# Altium footprint library 2.45-ECM-XF.PcbLib: 58 footprints (part 2 of 4)
Each footprint in its own frame and in the unit in brackets; x right, y up, seen from the top. Pads: shape width x height; smd on the part's side, far side on the other; paste and mask are expansions set on the pad; w line width, h text height; cw(c..) or ccw(c..) is an arc to the next point about the centre after c.
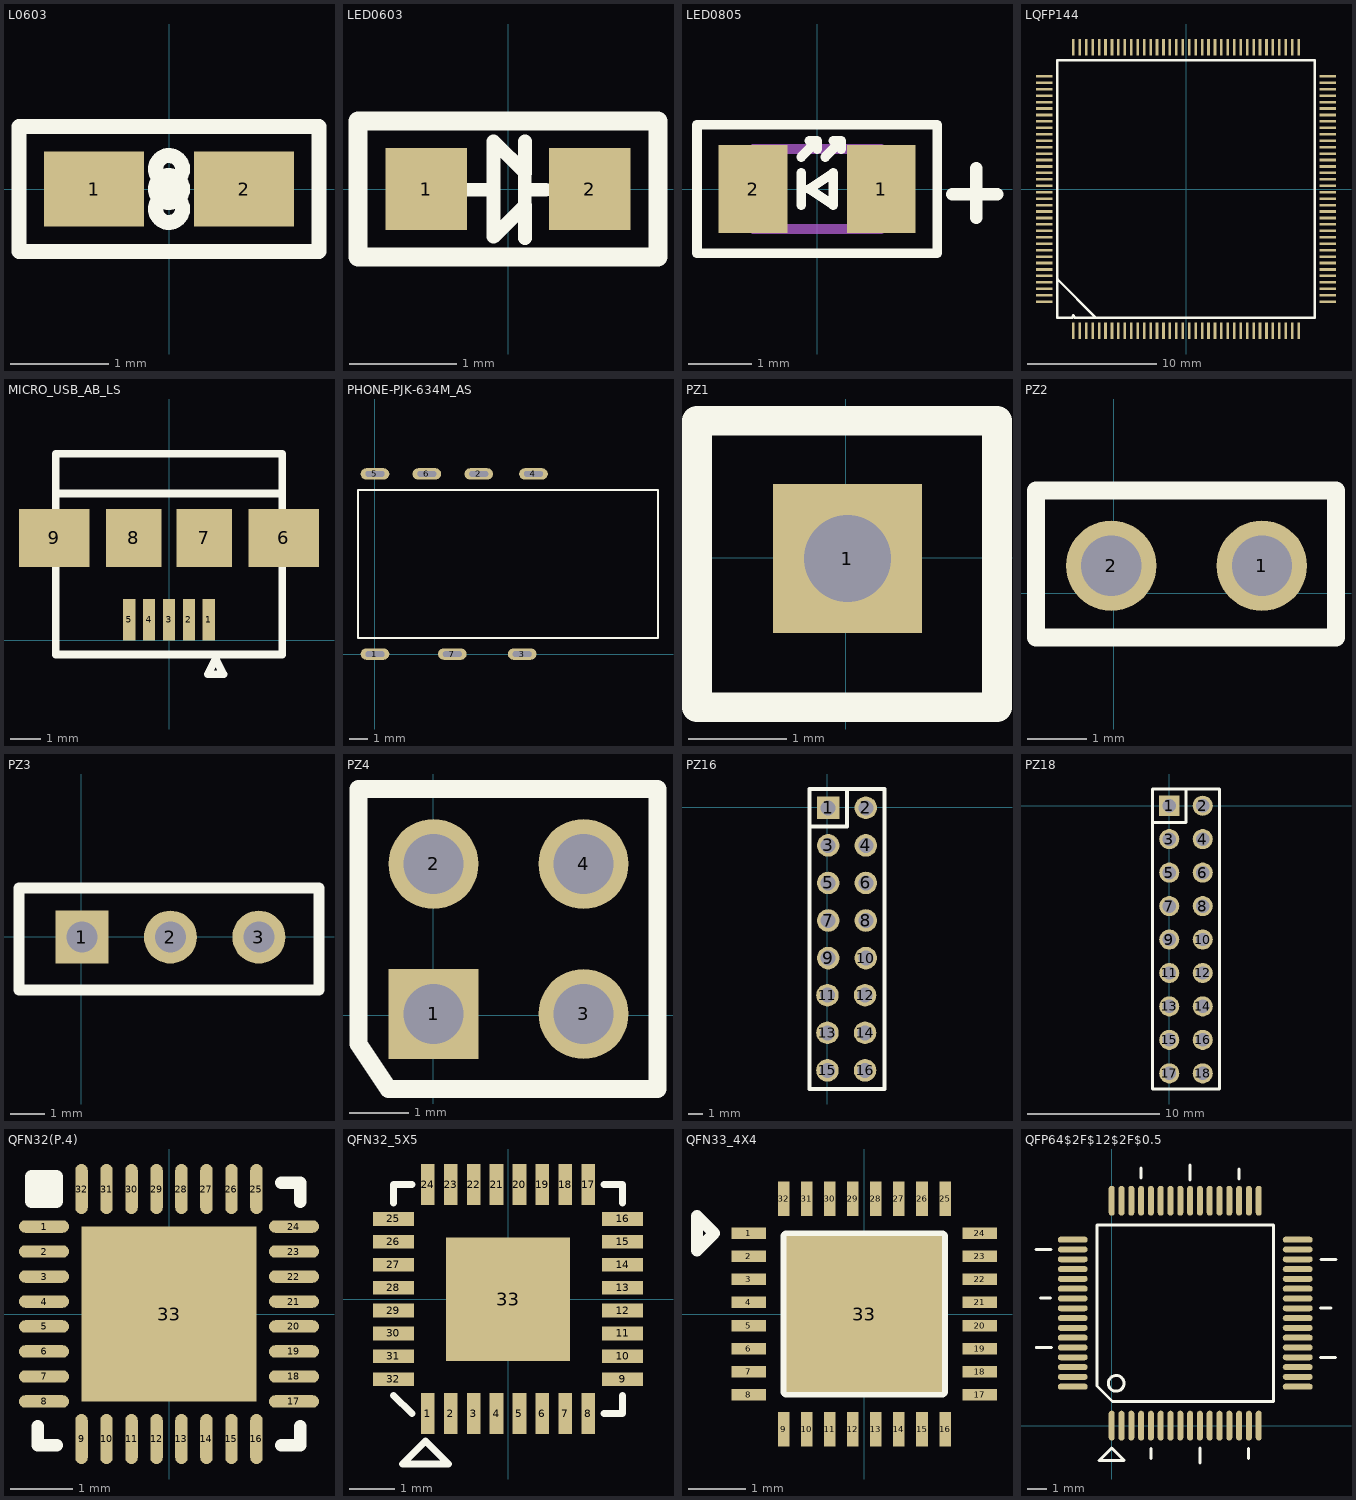
[diagram p1: the footprints below, top view; thin cyan lines are the x and y axes]

## L0603 [mil]
pads (2):
  rect 40x30 smd: 1(-30,0) 2(30,0)
Top Overlay:
  circle w6: c0,8 r5.39
  circle w6: c0,-8 r5.39
  circle w6: c0,0 r5.39
  lines w6: -60,-25 60,-25 60,25 -60,25 -60,-25

## LED0603 [mil]
pads (2):
  rect 30x30 smd: 1(-30,0) 2(30,0)
Top Overlay:
  lines w5: -15.03,-0.32 -7.3,-0.32 ; 6.21,-18.06 6.21,-5.99 ; 6.21,5.81 6.21,17.47 ; 7.75,-0.32 13.81,-0.32 ; -5.31,-17.57 -5.3,12.53 -5.3,17.55 6.19,6.05 6.19,-6.07 -5.31,-17.57
  lines w7: -55,-25 55,-25 55,25 -55,25 -55,-25

## LED0805 [mil]
pads (2):
  rect 43x55 smd: 1(40,0) 2(-40,0)
Top Overlay:
  lines w6: -10,-10 -10,10 ; -10,20 0,30 ; -5,30 0,30 ; 0,25 0,30 ; 5,20 15,30 ; 10,30 15,30 ; 15,25 15,30 ; -75,-40 75,-40 75,40 -75,40 -75,-40 ; -5,0 10,10 10,-10 -5,0
  lines w8: 84.42,-3.27 112.27,-3.27 ; 99.32,-17.78 99.32,12.82
Mechanical103:
  lines w6: -40,-25 40,-25 40,25 -40,25 -40,-25

## LQFP144 [mm]
height 1.6
pads (144):
  rect 0.2x1.3 smd: 1(-8.75,-11) 2(-8.25,-11) 3(-7.75,-11) 4(-7.25,-11) 5(-6.75,-11) 6(-6.25,-11) 7(-5.75,-11) 8(-5.25,-11) 9(-4.75,-11) 10(-4.25,-11) 11(-3.75,-11) 12(-3.25,-11) 13(-2.75,-11) 14(-2.25,-11) 15(-1.75,-11) 16(-1.25,-11) 17(-0.75,-11) 18(-0.25,-11) 19(0.25,-11) 20(0.75,-11) 21(1.25,-11) 22(1.75,-11) 23(2.25,-11) 24(2.75,-11) 25(3.25,-11) 26(3.75,-11) 27(4.25,-11) 28(4.75,-11) 29(5.25,-11) 30(5.75,-11) 31(6.25,-11) 32(6.75,-11) 33(7.25,-11) 34(7.75,-11) 35(8.25,-11) 36(8.75,-11) 73(8.75,11) 74(8.25,11) 75(7.75,11) 76(7.25,11) 77(6.75,11) 78(6.25,11) 79(5.75,11) 80(5.25,11) 81(4.75,11) 82(4.25,11) 83(3.75,11) 84(3.25,11) 85(2.75,11) 86(2.25,11) 87(1.75,11) 88(1.25,11) 89(0.75,11) 90(0.25,11) 91(-0.25,11) 92(-0.75,11) 93(-1.25,11) 94(-1.75,11) 95(-2.25,11) 96(-2.75,11) 97(-3.25,11) 98(-3.75,11) 99(-4.25,11) 100(-4.75,11) 101(-5.25,11) 102(-5.75,11) 103(-6.25,11) 104(-6.75,11) 105(-7.25,11) 106(-7.75,11) 107(-8.25,11) 108(-8.75,11)
  rect 1.3x0.2 smd: 37(11,-8.75) 38(11,-8.25) 39(11,-7.75) 40(11,-7.25) 41(11,-6.75) 42(11,-6.25) 43(11,-5.75) 44(11,-5.25) 45(11,-4.75) 46(11,-4.25) 47(11,-3.75) 48(11,-3.25) 49(11,-2.75) 50(11,-2.25) 51(11,-1.75) 52(11,-1.25) 53(11,-0.75) 54(11,-0.25) 55(11,0.25) 56(11,0.75) 57(11,1.25) 58(11,1.75) 59(11,2.25) 60(11,2.75) 61(11,3.25) 62(11,3.75) 63(11,4.25) 64(11,4.75) 65(11,5.25) 66(11,5.75) 67(11,6.25) 68(11,6.75) 69(11,7.25) 70(11,7.75) 71(11,8.25) 72(11,8.75) 109(-11,8.75) 110(-11,8.25) 111(-11,7.75) 112(-11,7.25) 113(-11,6.75) 114(-11,6.25) 115(-11,5.75) 116(-11,5.25) 117(-11,4.75) 118(-11,4.25) 119(-11,3.75) 120(-11,3.25) 121(-11,2.75) 122(-11,2.25) 123(-11,1.75) 124(-11,1.25) 125(-11,0.75) 126(-11,0.25) 127(-11,-0.25) 128(-11,-0.75) 129(-11,-1.25) 130(-11,-1.75) 131(-11,-2.25) 132(-11,-2.75) 133(-11,-3.25) 134(-11,-3.75) 135(-11,-4.25) 136(-11,-4.75) 137(-11,-5.25) 138(-11,-5.75) 139(-11,-6.25) 140(-11,-6.75) 141(-11,-7.25) 142(-11,-7.75) 143(-11,-8.25) 144(-11,-8.75)
Top Overlay:
  lines w0.2: -9.982,-7.01 -6.985,-10.008 ; -10,-10 -8.85,-10 -8.75,-9.8 -8.65,-10 10,-10 10,10 -10,10 -10,-10

## MICRO_USB_AB_LS [mm]
pads (9):
  rect 0.4x1.35 smd: 1(1.3,0.675) 2(0.65,0.675) 3(0,0.675) 4(-0.65,0.675) 5(-1.3,0.675)
  rect 2.3x1.9 smd: 6(3.75,3.35) 9(-3.75,3.35)
  rect 1.8x1.9 smd: 7(1.15,3.35) 8(-1.15,3.35)
Top Overlay:
  lines w0.254: -3.7,4.8 3.7,4.8 ; -3.7,-0.455 3.7,-0.455 3.7,6.1 -3.7,6.1 -3.7,-0.455 ; 1.27,-1.103 1.524,-0.595 1.778,-1.103 1.27,-1.103

## PHONE-PJK-634M_AS [mm]
pads (7):
  oval 1.524x0.6 hole 0.3 slot 1 at 0 deg: 1(0,0) 2(5.5,9.55) 3(7.8,0) 4(8.4,9.55) 5(0,9.55) 6(2.75,9.55) 7(4.1,0)
Top Overlay:
  lines w0.1: -0.9,0.85 -0.9,8.7 15,8.7 15,0.85 -0.9,0.85

## PZ1 [mil]
pads (1):
  rect 60x60 / inner round 60 / far side rect 60x60 hole 35: 1(0.79,-0.39)
Top Overlay:
  lines w12: -59.84,-60.24 -59.84,55.12 61.02,55.12 61.02,-60.24 -59.84,-60.24

## PZ2 [mil]
pads (2):
  round 60 hole 40: 1(98.43,18.11) 2(-1.57,18.11)
Top Overlay:
  lines w12: -51.57,-29.53 -51.57,-28.74 -51.57,68.11 147.64,68.11 147.64,-29.53 -51.57,-29.53

## PZ3 [mil]
pads (3):
  rect 60x60 / inner round 60 / far side rect 60x60 hole 35: 1(0.79,-0.39)
  round 60 hole 35: 2(100.79,-0.39) 3(200.79,-0.39)
Top Overlay:
  lines w12: -70.47,-60.24 -70.47,55.12 268.9,55.12 268.9,-60.24 -70.47,-60.24

## PZ4 [mil]
pads (4):
  rect 60x60 / inner round 60 / far side rect 60x60 hole 40: 1(0.39,0.79)
  round 60 hole 40: 2(0.39,100.79) 3(100.39,0.79) 4(100.39,100.79)
Top Overlay:
  lines w12: -49.61,-19.21 -29.61,-49.21 149.61,-49.21 149.61,150.79 -49.61,150.79 -49.61,-19.21

## PZ16 [mil]
pads (16):
  rect 60x60 / inner round 60 / far side rect 60x60 hole 40: 1(1.97,-1.18)
  round 60 hole 40: 2(101.97,-1.18) 3(1.97,-101.18) 4(101.97,-101.18) 5(1.97,-201.18) 6(101.97,-201.18) 7(1.97,-301.18) 8(101.97,-301.18) 9(1.97,-401.18) 10(101.97,-401.18) 11(0,-500) 12(100,-500) 13(0,-600) 14(100,-600) 15(0,-700) 16(100,-700)
Top Overlay:
  lines w10: -48.03,48.82 151.97,48.82 151.97,-749.61 -48.03,-749.61 -48.03,48.82 ; -48.03,48.82 51.97,48.82 51.97,-51.18 -48.03,-51.18 -48.03,48.82

## PZ18 [mil]
pads (18):
  rect 60x60 / inner round 60 / far side rect 60x60 hole 40: 1(0,0)
  round 60 hole 40: 2(100,0) 3(0,-100) 4(100,-100) 5(0,-200) 6(100,-200) 7(0,-300) 8(100,-300) 9(0,-400) 10(100,-400) 11(0,-500) 12(100,-500) 13(0,-600) 14(100,-600) 15(0,-700) 16(100,-700) 17(0,-800) 18(100,-800)
Top Overlay:
  lines w10: -50,50 150,50 150,-846.85 -50,-846.85 -50,50 ; -50,50 50,50 50,-50 -50,-50 -50,50

## QFN32(P.4) [mm]
pads (33):
  oval 0.8x0.2 smd: 1(-2,1.4) 2(-2,1) 3(-2,0.6) 4(-2,0.2) 5(-2,-0.2) 6(-2,-0.6) 7(-2,-1) 8(-2,-1.4) 17(2,-1.4) 18(2,-1) 19(2,-0.6) 20(2,-0.2) 21(2,0.2) 22(2,0.6) 23(2,1) 24(2,1.4)
  oval 0.2x0.8 smd: 9(-1.4,-2) 10(-1,-2) 11(-0.6,-2) 12(-0.2,-2) 13(0.2,-2) 14(0.6,-2) 15(1,-2) 16(1.4,-2) 25(1.4,2) 26(1,2) 27(0.6,2) 28(0.2,2) 29(-0.2,2) 30(-0.6,2) 31(-1,2) 32(-1.4,2)
  rect 2.8x2.8 smd paste-1.4: 33(0,0)
Top Overlay:
  lines w0.203: -2.1,-1.8 -2.1,-2.1 -1.8,-2.1 ; -2,2 -2.1,2.1 ; 1.8,-2.1 2.1,-2.1 2.1,-1.8 ; 1.8,2.1 2.1,2.1 2.1,1.8 ; -2.2,2.2 -2.2,1.8 -1.8,1.8 -1.8,2.2 -2.2,2.2 ; -2.2,2.2 -2.1,2.1 ; -2.1,2.1 -2.1,1.9 -1.9,1.9 -1.9,2.1 -2.1,2.1
Top Paste:
  region: -1.35,1.35 -1.35,0.15 -0.15,0.15 -0.15,1.35
  region: -1.35,-0.15 -1.35,-1.35 -0.15,-1.35 -0.15,-0.15
  region: 0.15,-0.15 0.15,-1.35 1.35,-1.35 1.35,-0.15
  region: 0.15,1.35 0.15,0.15 1.35,0.15 1.35,1.35

## QFN32_5X5 [mm]
pads (33):
  rect 0.3x0.9 smd: 1(-1.75,-2.5) 2(-1.25,-2.5) 3(-0.75,-2.5) 4(-0.25,-2.5) 5(0.25,-2.5) 6(0.75,-2.5) 7(1.25,-2.5) 8(1.75,-2.5) 17(1.75,2.5) 18(1.25,2.5) 19(0.75,2.5) 20(0.25,2.5) 21(-0.25,2.5) 22(-0.75,2.5) 23(-1.25,2.5) 24(-1.75,2.5)
  rect 0.9x0.3 smd: 9(2.5,-1.75) 10(2.5,-1.25) 11(2.5,-0.75) 12(2.5,-0.25) 13(2.5,0.25) 14(2.5,0.75) 15(2.5,1.25) 16(2.5,1.75) 25(-2.5,1.75) 26(-2.5,1.25) 27(-2.5,0.75) 28(-2.5,0.25) 29(-2.5,-0.25) 30(-2.5,-0.75) 31(-2.5,-1.25) 32(-2.5,-1.75)
  rect 2.7x2.7 smd: 33(0,0)
Top Overlay:
  lines w0.152: -2.5,-2.1 -2.1,-2.5 ; -2.5,2.1 -2.5,2.5 -2.1,2.5 ; 2.1,-2.5 2.5,-2.5 2.5,-2.1 ; 2.1,2.5 2.5,2.5 2.5,2.1 ; -2.3,-3.6 -1.3,-3.6 -1.8,-3.1 -2.3,-3.6

## QFN33_4X4 [mm]
height 1.6
pads (33):
  rect 0.6x0.2 smd: 1(-2,1.4) 2(-2,1) 3(-2,0.6) 4(-2,0.2) 5(-2,-0.2) 6(-2,-0.6) 7(-2,-1) 8(-2,-1.4) 17(2,-1.4) 18(2,-1) 19(2,-0.6) 20(2,-0.2) 21(2,0.2) 22(2,0.6) 23(2,1) 24(2,1.4)
  rect 0.2x0.6 smd: 9(-1.4,-2) 10(-1,-2) 11(-0.6,-2) 12(-0.2,-2) 13(0.2,-2) 14(0.6,-2) 15(1,-2) 16(1.4,-2) 25(1.4,2) 26(1,2) 27(0.6,2) 28(0.2,2) 29(-0.2,2) 30(-0.6,2) 31(-1,2) 32(-1.4,2)
  rrect0% 2.7x2.7 smd: 33(0,0)
Top Overlay:
  lines w0.2: -1.35,-1.35 -1.35,1.35 1.35,1.35 1.35,-1.35 -1.35,-1.35
  lines w0.203: -2.9,1.1 -2.6,1.4 -2.9,1.7 -2.9,1.1

## QFP64$2F$12$2F$0.5 [mil]
pads (64):
  oval 12x60 smd: 1(0,0) 2(19.68,0) 3(39.37,0) 4(59.06,0) 5(78.74,0) 6(98.43,0) 7(118.11,0) 8(137.8,0) 9(157.48,0) 10(177.17,0) 11(196.85,0) 12(216.54,0) 13(236.22,0) 14(255.91,0) 15(275.59,0) 16(295.28,0) 33(295.28,451.81) 34(275.59,451.81) 35(255.91,451.81) 36(236.22,451.81) 37(216.54,451.81) 38(196.85,451.81) 39(177.17,451.81) 40(157.48,451.81) 41(137.8,451.81) 42(118.11,451.81) 43(98.43,451.81) 44(78.74,451.81) 45(59.06,451.81) 46(39.37,451.81) 47(19.68,451.81) 48(0,451.81)
  oval 60x12 smd: 17(373.54,78.27) 18(373.54,97.95) 19(373.54,117.64) 20(373.54,137.32) 21(373.54,157.01) 22(373.54,176.69) 23(373.54,196.38) 24(373.54,216.06) 25(373.54,235.75) 26(373.54,255.43) 27(373.54,275.12) 28(373.54,294.8) 29(373.54,314.49) 30(373.54,334.17) 31(373.54,353.86) 32(373.54,373.54) 49(-78.27,373.54) 50(-78.27,353.86) 51(-78.27,334.17) 52(-78.27,314.49) 53(-78.27,294.8) 54(-78.27,275.12) 55(-78.27,255.43) 56(-78.27,235.75) 57(-78.27,216.06) 58(-78.27,196.38) 59(-78.27,176.69) 60(-78.27,157.01) 61(-78.27,137.32) 62(-78.27,117.64) 63(-78.27,97.95) 64(-78.27,78.27)
Top Overlay:
  circle w6: c9,85 r15.81
  lines w6: -152,353.86 -121.5,353.86 ; -151.5,157.01 -121,157.01 ; -143,256 -122.5,256 ; 59.06,497 59.06,517.5 ; 79,-66 79,-45.5 ; 157.48,493 157.48,523.5 ; 177,-75 177,-44.5 ; 255.91,495 255.91,515.5 ; 275,-66 275,-45.5 ; 419,137 449.5,137 ; 419.5,236 440,236 ; 420,334.17 450.5,334.17 ; -29.53,79.43 -29.53,403.07 324.8,403.07 324.8,48.74 1.73,48.74 -29.53,79.43 ; -25,-70 0,-45 25,-70 -25,-70